# Altium footprint library PCB_control_unit.PcbLib: 48 footprints (part 1 of 3)
Each footprint in its own frame and in the unit in brackets; x right, y up, seen from the top. Pads: shape width x height; smd on the part's side, far side on the other; paste and mask are expansions set on the pad; w line width, h text height; cw(c..) or ccw(c..) is an arc to the next point about the centre after c.
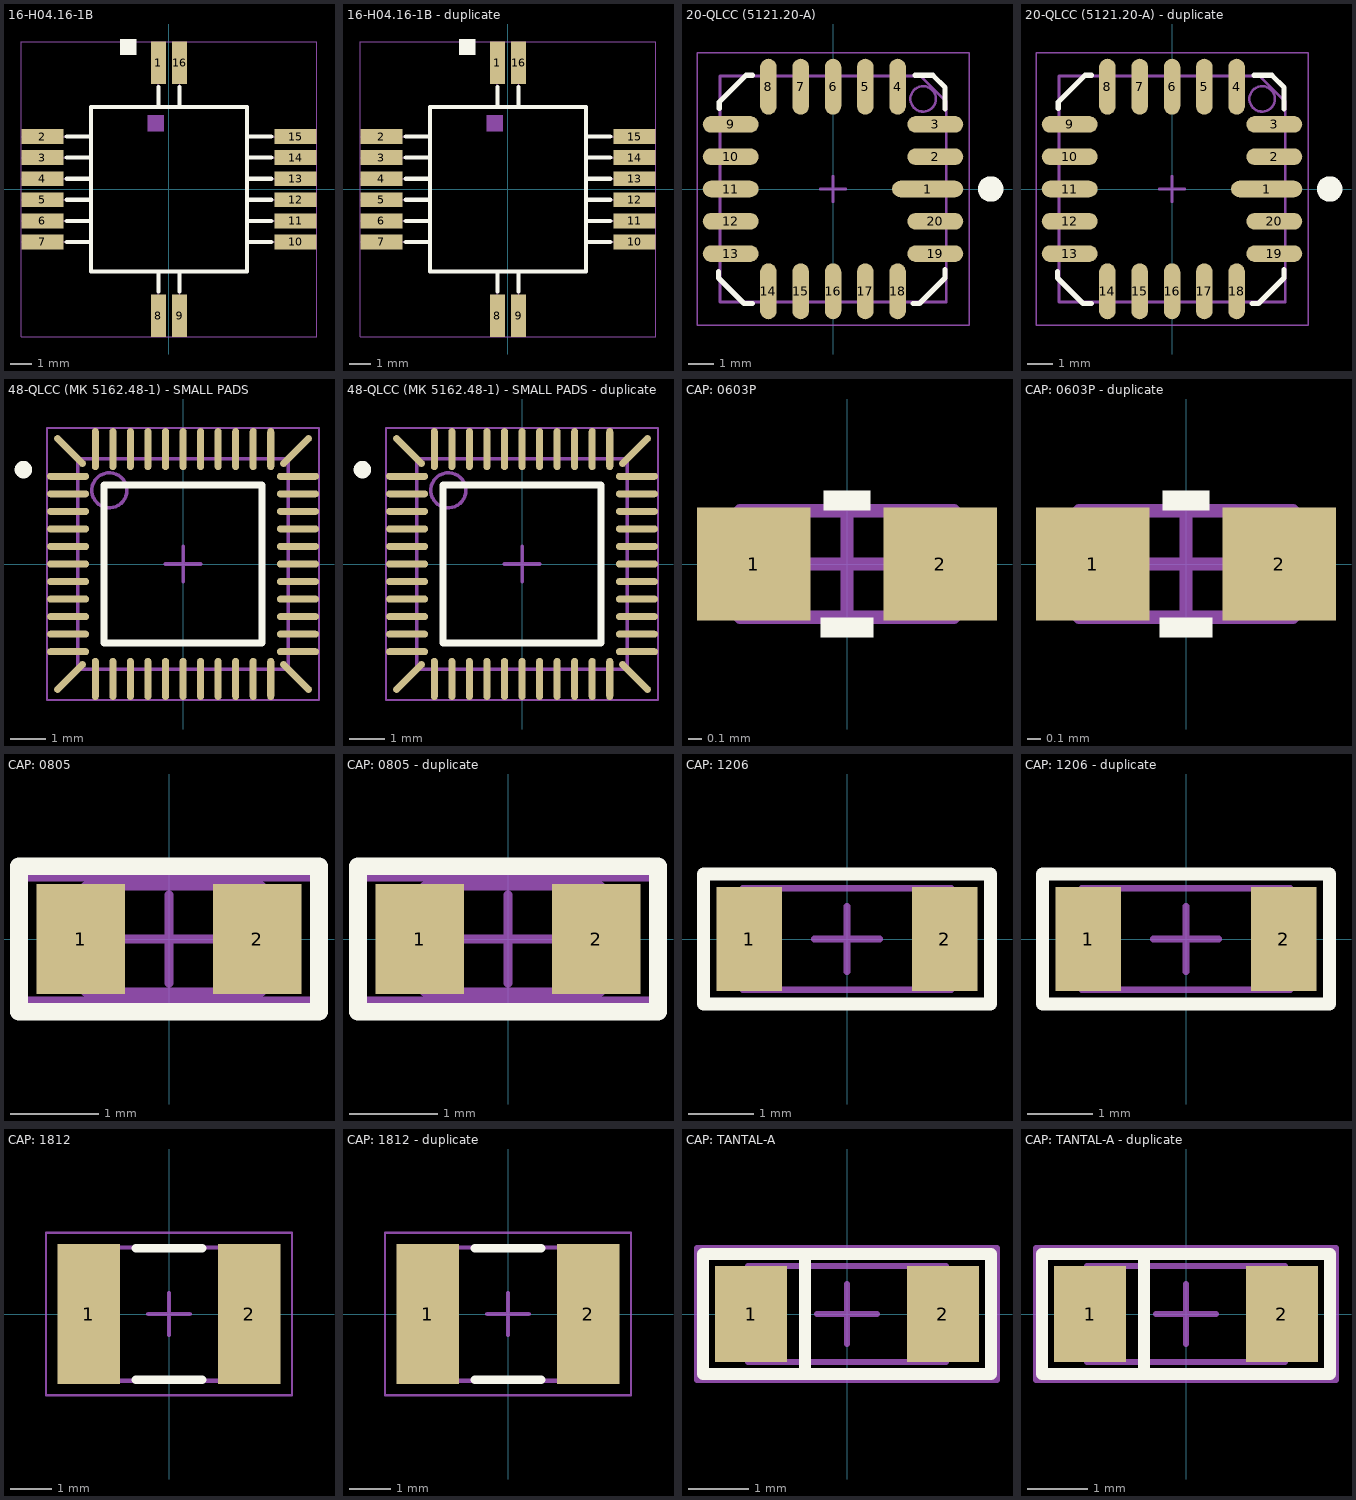
[diagram p0: the footprints below, top view; thin cyan lines are the x and y axes]

## 16-Н04.16-1B [mm] "USSR"
height 3
pads (16):
  rect 0.7x2 smd mask+0.075: 1(-0.5,6) 8(-0.5,-6) 9(0.5,-6) 16(0.5,6)
  rect 2x0.7 smd mask+0.075: 2(-6,2.5) 3(-6,1.5) 4(-6,0.5) 5(-6,-0.5) 6(-6,-1.5) 7(-6,-2.5) 10(6,-2.5) 11(6,-1.5) 12(6,-0.5) 13(6,0.5) 14(6,1.5)
  rect 2x0.7 smd: 15(6,2.5)
Top Overlay:
  region: -2.3,6.375 -1.55,6.375 -1.55,7.125 -2.3,7.125
  lines w0.2: -4.85,-2.5 -3.7,-2.5 ; -4.85,-1.5 -3.7,-1.5 ; -4.85,-0.5 -3.7,-0.5 ; -4.85,0.5 -3.7,0.5 ; -4.85,1.5 -3.7,1.5 ; -4.85,2.5 -3.7,2.5 ; -0.5,-4.85 -0.5,-3.9 ; -0.5,3.9 -0.5,4.85 ; 0.5,-4.85 0.5,-3.9 ; 0.5,3.9 0.5,4.85 ; 3.7,-2.5 4.85,-2.5 ; 3.7,-1.5 4.85,-1.5 ; 3.7,-0.5 4.85,-0.5 ; 3.7,0.5 4.85,0.5 ; 3.7,1.5 4.85,1.5 ; 3.7,2.5 4.85,2.5 ; -3.7,-3.9 3.7,-3.9 3.7,3.9 -3.7,3.9 -3.7,-3.9
Top Solder:
  region: -0.95,4.9 -0.05,4.9 -0.05,7.1 -0.95,7.1
  region: 4.9,-2.95 7.1,-2.95 7.1,-2.05 4.9,-2.05
  region: 4.9,-1.95 7.1,-1.95 7.1,-1.05 4.9,-1.05
  region: 4.9,-0.95 7.1,-0.95 7.1,-0.05 4.9,-0.05
  region: 4.9,0.05 7.1,0.05 7.1,0.95 4.9,0.95
  region: 4.9,1.05 7.1,1.05 7.1,1.95 4.9,1.95
  region: 4.9,2.05 7.1,2.05 7.1,2.95 4.9,2.95
  region: 0.05,4.9 0.95,4.9 0.95,7.1 0.05,7.1
  region: -7.1,2.05 -4.9,2.05 -4.9,2.95 -7.1,2.95
  region: -7.1,1.05 -4.9,1.05 -4.9,1.95 -7.1,1.95
  region: -7.1,0.05 -4.9,0.05 -4.9,0.95 -7.1,0.95
  region: -7.1,-0.95 -4.9,-0.95 -4.9,-0.05 -7.1,-0.05
  region: -7.1,-1.95 -4.9,-1.95 -4.9,-1.05 -7.1,-1.05
  region: -7.1,-2.95 -4.9,-2.95 -4.9,-2.05 -7.1,-2.05
  region: -0.95,-7.1 -0.05,-7.1 -0.05,-4.9 -0.95,-4.9
  region: 0.05,-7.1 0.95,-7.1 0.95,-4.9 0.05,-4.9
Mechanical 1:
  region: -1,2.75 -0.25,2.75 -0.25,3.5 -1,3.5
  lines w0.025: -7,-2.5 -3.7,-2.5 ; -7,-1.5 -3.7,-1.5 ; -7,-0.5 -3.7,-0.5 ; -7,0.5 -3.7,0.5 ; -7,1.5 -3.7,1.5 ; -7,2.5 -3.7,2.5 ; -0.5,-7 -0.5,-3.9 ; -0.5,3.9 -0.5,7 ; 0.5,-7 0.5,-3.9 ; 0.5,3.9 0.5,7 ; 3.7,-2.5 7,-2.5 ; 3.7,-1.5 7,-1.5 ; 3.7,-0.5 7,-0.5 ; 3.7,0.5 7,0.5 ; 3.7,1.5 7,1.5 ; 3.7,2.5 7,2.5 ; -3.7,-3.9 3.7,-3.9 3.7,3.9 -3.7,3.9 -3.7,-3.9
Mechanical 15:
  lines w0.01: -7,-7 7,-7 7,7 -7,7 -7,-7
3D body "Н04.16-1В.STEP": height 2.92, standoff 0, extent -7.84,-8 7.84,8

## 16-Н04.16-1B - duplicate [mm]
pads (16):
  rect 0.7x2 smd mask+0.075: 1(-0.5,6) 8(-0.5,-6) 9(0.5,-6) 16(0.5,6)
  rect 2x0.7 smd mask+0.075: 2(-6,2.5) 3(-6,1.5) 4(-6,0.5) 5(-6,-0.5) 6(-6,-1.5) 7(-6,-2.5) 10(6,-2.5) 11(6,-1.5) 12(6,-0.5) 13(6,0.5) 14(6,1.5)
  rect 2x0.7 smd: 15(6,2.5)
Top Overlay:
  region: -2.3,6.375 -1.55,6.375 -1.55,7.125 -2.3,7.125
  lines w0.2: -4.85,-2.5 -3.7,-2.5 ; -4.85,-1.5 -3.7,-1.5 ; -4.85,-0.5 -3.7,-0.5 ; -4.85,0.5 -3.7,0.5 ; -4.85,1.5 -3.7,1.5 ; -4.85,2.5 -3.7,2.5 ; -0.5,-4.85 -0.5,-3.9 ; -0.5,3.9 -0.5,4.85 ; 0.5,-4.85 0.5,-3.9 ; 0.5,3.9 0.5,4.85 ; 3.7,-2.5 4.85,-2.5 ; 3.7,-1.5 4.85,-1.5 ; 3.7,-0.5 4.85,-0.5 ; 3.7,0.5 4.85,0.5 ; 3.7,1.5 4.85,1.5 ; 3.7,2.5 4.85,2.5 ; -3.7,-3.9 -3.7,3.9 3.7,3.9 3.7,-3.9 -3.7,-3.9
Top Solder:
  region: 0.05,-7.1 0.95,-7.1 0.95,-4.9 0.05,-4.9
  region: -0.95,-7.1 -0.05,-7.1 -0.05,-4.9 -0.95,-4.9
  region: -7.1,-2.95 -4.9,-2.95 -4.9,-2.05 -7.1,-2.05
  region: -7.1,-1.95 -4.9,-1.95 -4.9,-1.05 -7.1,-1.05
  region: -7.1,-0.95 -4.9,-0.95 -4.9,-0.05 -7.1,-0.05
  region: -7.1,0.05 -4.9,0.05 -4.9,0.95 -7.1,0.95
  region: -7.1,1.05 -4.9,1.05 -4.9,1.95 -7.1,1.95
  region: -7.1,2.05 -4.9,2.05 -4.9,2.95 -7.1,2.95
  region: 0.05,4.9 0.95,4.9 0.95,7.1 0.05,7.1
  region: 4.9,2.05 7.1,2.05 7.1,2.95 4.9,2.95
  region: 4.9,1.05 7.1,1.05 7.1,1.95 4.9,1.95
  region: 4.9,0.05 7.1,0.05 7.1,0.95 4.9,0.95
  region: 4.9,-0.95 7.1,-0.95 7.1,-0.05 4.9,-0.05
  region: 4.9,-1.95 7.1,-1.95 7.1,-1.05 4.9,-1.05
  region: 4.9,-2.95 7.1,-2.95 7.1,-2.05 4.9,-2.05
  region: -0.95,4.9 -0.05,4.9 -0.05,7.1 -0.95,7.1
Mechanical 1:
  region: -1,2.75 -0.25,2.75 -0.25,3.5 -1,3.5
  lines w0.025: -7,-2.5 -3.7,-2.5 ; -7,-1.5 -3.7,-1.5 ; -7,-0.5 -3.7,-0.5 ; -7,0.5 -3.7,0.5 ; -7,1.5 -3.7,1.5 ; -7,2.5 -3.7,2.5 ; -0.5,-7 -0.5,-3.9 ; -0.5,3.9 -0.5,7 ; 0.5,-7 0.5,-3.9 ; 0.5,3.9 0.5,7 ; 3.7,-2.5 7,-2.5 ; 3.7,-1.5 7,-1.5 ; 3.7,-0.5 7,-0.5 ; 3.7,0.5 7,0.5 ; 3.7,1.5 7,1.5 ; 3.7,2.5 7,2.5 ; -3.7,-3.9 -3.7,3.9 3.7,3.9 3.7,-3.9 -3.7,-3.9
Mechanical 15:
  lines w0.01: -7,-7 -7,7 7,7 7,-7 -7,-7
3D body "Н04.16-1В.STEP": height 2.92, standoff 0, extent -7.84,-8 7.84,8

## 20-QLCC (5121.20-A) [mm] "LCC, 20-Pins, Body 8,89x8,89mmx2,55mm, Pitch 1,27mm, IPC Medium Density"
height 2.55
pads (20):
  oval 2.8x0.65 smd: 1(3.725,0)
  oval 2.2x0.65 smd: 2(4.025,1.27) 3(4.025,2.54) 9(-4.025,2.54) 10(-4.025,1.27) 11(-4.025,0) 12(-4.025,-1.27) 13(-4.025,-2.54) 19(4.025,-2.54) 20(4.025,-1.27)
  oval 0.65x2.2 smd: 4(2.54,4.025) 5(1.27,4.025) 6(0,4.025) 7(-1.27,4.025) 8(-2.54,4.025) 14(-2.54,-4.025) 15(-1.27,-4.025) 16(0,-4.025) 17(1.27,-4.025) 18(2.54,-4.025)
Top Overlay:
  circle w0.5: c6.2,0 r0.25
  lines w0.2: -4.5,-3.25 -4.5,-3.5 -3.5,-4.5 -3.175,-4.5 ; -4.475,3.175 -4.475,3.425 -3.425,4.475 -3.175,4.475 ; 3.15,-4.5 3.4,-4.5 4.4,-3.5 4.4,-3.175 ; 3.225,4.475 3.925,4.475 4.4,4 4.4,3.15
Mechanical 13:
  circle w0.1: c3.545,3.545 r0.5
  lines w0.1: -4.445,-4.445 -4.445,4.445 3.445,4.445 4.445,3.445 4.445,-4.445 -4.445,-4.445
Mechanical 15:
  lines w0.05: -5.35,-5.35 5.35,-5.35 5.35,5.35 -5.35,5.35 -5.35,-5.35
  lines w0.1: -0.5,0 0.5,0 ; 0,-0.5 0,0.5
3D body "3_korpus_5121_20-a.stp": height 2.12, standoff 0, extent -4.445,-4.445 4.445,4.445

## 20-QLCC (5121.20-A) - duplicate [mm]
pads (20):
  oval 2.8x0.65 smd: 1(3.725,0)
  oval 2.2x0.65 smd: 2(4.025,1.27) 3(4.025,2.54) 9(-4.025,2.54) 10(-4.025,1.27) 11(-4.025,0) 12(-4.025,-1.27) 13(-4.025,-2.54) 19(4.025,-2.54) 20(4.025,-1.27)
  oval 0.65x2.2 smd: 4(2.54,4.025) 5(1.27,4.025) 6(0,4.025) 7(-1.27,4.025) 8(-2.54,4.025) 14(-2.54,-4.025) 15(-1.27,-4.025) 16(0,-4.025) 17(1.27,-4.025) 18(2.54,-4.025)
Top Overlay:
  circle w0.5: c6.2,0 r0.25
  lines w0.2: -4.5,-3.25 -4.5,-3.5 -3.5,-4.5 -3.175,-4.5 ; -4.475,3.175 -4.475,3.425 -3.425,4.475 -3.175,4.475 ; 3.15,-4.5 3.4,-4.5 4.4,-3.5 4.4,-3.175 ; 3.225,4.475 3.925,4.475 4.4,4 4.4,3.15
Mechanical 13:
  circle w0.1: c3.545,3.545 r0.5
  lines w0.1: -4.445,-4.445 -4.445,4.445 3.445,4.445 4.445,3.445 4.445,-4.445 -4.445,-4.445
Mechanical 15:
  lines w0.05: -5.35,-5.35 5.35,-5.35 5.35,5.35 -5.35,5.35 -5.35,-5.35
  lines w0.1: -0.5,0 0.5,0 ; 0,-0.5 0,0.5
3D body "3_korpus_5121_20-a.stp": height 2.12, standoff 0, extent -4.445,-4.445 4.445,4.445

## 48-QLCC (МК 5162.48-1) - SMALL PADS [mm] "QFN-cl-h-48-0.5-002 Тихонов Е.Н."
pads (48):
  oval 1.2x0.2 smd mask+0.1: 1(-3.275,2.5) 2(-3.275,2) 3(-3.275,1.5) 4(-3.275,1) 5(-3.275,0.5) 6(-3.275,0) 7(-3.275,-0.5) 8(-3.275,-1) 9(-3.275,-1.5) 10(-3.275,-2) 11(-3.275,-2.5) 25(3.275,-2.5) 26(3.275,-2) 27(3.275,-1.5) 28(3.275,-1) 29(3.275,-0.5) 30(3.275,0) 31(3.275,0.5) 32(3.275,1) 33(3.275,1.5) 34(3.275,2) 35(3.275,2.5)
  oval 0.2x1.2 smd rot 135 mask+0.1: 12(-3.22,-3.22) 36(3.22,3.22)
  oval 0.2x1.2 smd mask+0.1: 13(-2.5,-3.275) 14(-2,-3.275) 15(-1.5,-3.275) 16(-1,-3.275) 17(-0.5,-3.275) 18(0,-3.275) 19(0.5,-3.275) 20(1,-3.275) 21(1.5,-3.275) 22(2,-3.275) 23(2.5,-3.275) 37(2.5,3.275) 38(2,3.275) 39(1.5,3.275) 40(1,3.275) 41(0.5,3.275) 42(0,3.275) 43(-0.5,3.275) 44(-1,3.275) 45(-1.5,3.275) 46(-2,3.275) 47(-2.5,3.275)
  oval 0.2x1.2 smd rot 45 mask+0.1: 24(3.22,-3.22) 48(-3.22,3.22)
Top Overlay:
  circle w0.25: c-4.55,2.689 r0.125
  lines w0.2: -2.25,-2.25 2.25,-2.25 2.25,2.25 -2.25,2.25 -2.25,-2.25
Mechanical 13:
  circle w0.1: c-2.1,2.1 r0.5
  lines w0.1: -3,-3 -3,2.95 -2.95,3 3,3 3,-3 -3,-3
Mechanical 15:
  lines w0.05: -3.875,-3.875 -3.875,3.875 3.875,3.875 3.875,-3.875 -3.875,-3.875
  lines w0.1: -0.5,0 0.5,0 ; 0,-0.5 0,0.5
3D body "5162.48-1 Корпус.stp": height 1.61, standoff -0.01, extent -3,-3 3,3

## 48-QLCC (МК 5162.48-1) - SMALL PADS - duplicate [mm]
pads (48):
  oval 1.2x0.2 smd mask+0.1: 1(-3.275,2.5) 2(-3.275,2) 3(-3.275,1.5) 4(-3.275,1) 5(-3.275,0.5) 6(-3.275,0) 7(-3.275,-0.5) 8(-3.275,-1) 9(-3.275,-1.5) 10(-3.275,-2) 11(-3.275,-2.5) 25(3.275,-2.5) 26(3.275,-2) 27(3.275,-1.5) 28(3.275,-1) 29(3.275,-0.5) 30(3.275,0) 31(3.275,0.5) 32(3.275,1) 33(3.275,1.5) 34(3.275,2) 35(3.275,2.5)
  oval 0.2x1.2 smd rot 135 mask+0.1: 12(-3.22,-3.22) 36(3.22,3.22)
  oval 0.2x1.2 smd mask+0.1: 13(-2.5,-3.275) 14(-2,-3.275) 15(-1.5,-3.275) 16(-1,-3.275) 17(-0.5,-3.275) 18(0,-3.275) 19(0.5,-3.275) 20(1,-3.275) 21(1.5,-3.275) 22(2,-3.275) 23(2.5,-3.275) 37(2.5,3.275) 38(2,3.275) 39(1.5,3.275) 40(1,3.275) 41(0.5,3.275) 42(0,3.275) 43(-0.5,3.275) 44(-1,3.275) 45(-1.5,3.275) 46(-2,3.275) 47(-2.5,3.275)
  oval 0.2x1.2 smd rot 45 mask+0.1: 24(3.22,-3.22) 48(-3.22,3.22)
Top Overlay:
  circle w0.25: c-4.55,2.689 r0.125
  lines w0.2: -2.25,-2.25 2.25,-2.25 2.25,2.25 -2.25,2.25 -2.25,-2.25
Mechanical 13:
  circle w0.1: c-2.1,2.1 r0.5
  lines w0.1: -3,-3 -3,2.95 -2.95,3 3,3 3,-3 -3,-3
Mechanical 15:
  lines w0.05: -3.875,-3.875 -3.875,3.875 3.875,3.875 3.875,-3.875 -3.875,-3.875
  lines w0.1: -0.5,0 0.5,0 ; 0,-0.5 0,0.5
3D body "5162.48-1 Корпус.stp": height 1.61, standoff -0.01, extent -3,-3 3,3

## CAP: 0603P [mm] "small var"
height 0.45
pads (2):
  rect 0.85x0.85 smd: 1(-0.7,0) 2(0.7,0)
Top Overlay:
  rectangle: -0.178,0.4 0.178,0.55
  rectangle: -0.198,-0.55 0.198,-0.4
Mechanical 1:
  lines w0.1: -0.8,-0.4 0.8,-0.4 0.8,0.4 -0.8,0.4 -0.8,-0.4
Mechanical 15:
  lines w0.1: -0.475,0 0.475,0 ; 0,-0.475 0,0.475
3D body "SW3dPS-0603 SMD Capacitor.STEP": height 0.3, standoff 0, extent -0.8,-0.4 0.8,0.4

## CAP: 0603P - duplicate [mm]
pads (2):
  rect 0.85x0.85 smd: 1(-0.7,0) 2(0.7,0)
Top Overlay:
  rectangle: -0.178,0.4 0.178,0.55
  rectangle: -0.198,-0.55 0.198,-0.4
Mechanical 1:
  lines w0.1: -0.8,-0.4 0.8,-0.4 0.8,0.4 -0.8,0.4 -0.8,-0.4
Mechanical 15:
  lines w0.1: -0.475,0 0.475,0 ; 0,-0.475 0,0.475
3D body "SW3dPS-0603 SMD Capacitor.STEP": height 0.3, standoff 0, extent -0.8,-0.4 0.8,0.4

## CAP: 0805 [mm]
height 0.45
pads (2):
  rect 1x1.25 smd: 1(-1,0) 2(1,0)
Top Overlay:
  lines w0.2: -1.7,-0.825 1.7,-0.825 1.7,0.825 -1.7,0.825 -1.7,-0.825
Mechanical 1:
  lines w0.1: -0.949,-0.6 1.05,-0.6 1.05,0.6 -0.949,0.6 -0.949,-0.6
Mechanical 15:
  lines w0.1: -0.5,0 0.5,0 ; 0,-0.5 0,0.5 ; -1.7,-0.7 -1.7,0.7 1.7,0.7 1.7,-0.7 -1.7,-0.7
3D body "SW3dPS-0805 SMD Capacitor.STEP": height 0.78, standoff 0, extent -1,-0.625 1,0.625

## CAP: 0805 - duplicate [mm]
pads (2):
  rect 1x1.25 smd: 1(-1,0) 2(1,0)
Top Overlay:
  lines w0.2: -1.7,-0.825 1.7,-0.825 1.7,0.825 -1.7,0.825 -1.7,-0.825
Mechanical 1:
  lines w0.1: -0.949,-0.6 1.05,-0.6 1.05,0.6 -0.949,0.6 -0.949,-0.6
Mechanical 15:
  lines w0.1: -0.5,0 0.5,0 ; 0,-0.5 0,0.5 ; -1.7,-0.7 -1.7,0.7 1.7,0.7 1.7,-0.7 -1.7,-0.7
3D body "SW3dPS-0805 SMD Capacitor.STEP": height 0.78, standoff 0, extent -1,-0.625 1,0.625

## CAP: 1206 [mm]
height 0.6
pads (2):
  rect 1x1.6 smd: 1(-1.5,0) 2(1.5,0)
Top Overlay:
  lines w0.2: -2.2,-1 -2.2,1 2.2,1 2.2,-1 -2.2,-1
Mechanical 1:
  lines w0.1: -1.6,-0.775 -1.6,0.775 1.6,0.775 1.6,-0.775 -1.6,-0.775
Mechanical 15:
  lines w0.1: -0.5,0 0.5,0 ; 0,-0.5 0,0.5 ; -2.2,-1 2.2,-1 2.2,1 -2.2,1 -2.2,-1
3D body "SW3dPS-1206 SMD Capacitor.STEP": height 1, standoff 0, extent -1.6,-0.8 1.6,0.8

## CAP: 1206 - duplicate [mm]
pads (2):
  rect 1x1.6 smd: 1(-1.5,0) 2(1.5,0)
Top Overlay:
  lines w0.2: -2.2,-1 -2.2,1 2.2,1 2.2,-1 -2.2,-1
Mechanical 1:
  lines w0.1: -1.6,-0.775 -1.6,0.775 1.6,0.775 1.6,-0.775 -1.6,-0.775
Mechanical 15:
  lines w0.1: -0.5,0 0.5,0 ; 0,-0.5 0,0.5 ; -2.2,-1 2.2,-1 2.2,1 -2.2,1 -2.2,-1
3D body "SW3dPS-1206 SMD Capacitor.STEP": height 1, standoff 0, extent -1.6,-0.8 1.6,0.8

## CAP: 1812 [mm]
height 1.4
pads (2):
  rect 1.5x3.35 smd: 1(-1.925,0) 2(1.925,0)
Top Overlay:
  lines w0.2: -0.8,-1.575 0.8,-1.575 ; -0.8,1.575 0.8,1.575
Mechanical 1:
  lines w0.1: -2.25,-1.6 -2.25,1.6 2.25,1.6 2.25,-1.6 -2.25,-1.6
Mechanical 15:
  lines w0.05: -2.95,-1.95 -2.95,1.95 2.95,1.95 2.95,-1.95 -2.95,-1.95
  lines w0.1: -0.5,0 0.5,0 ; 0,-0.5 0,0.5
3D body "SW3dPS-1812 SMD Capacitor.STEP": height 1.6, standoff 0, extent -2.25,-1.6 2.25,1.6

## CAP: 1812 - duplicate [mm]
pads (2):
  rect 1.5x3.35 smd: 1(-1.925,0) 2(1.925,0)
Top Overlay:
  lines w0.2: -0.8,-1.575 0.8,-1.575 ; -0.8,1.575 0.8,1.575
Mechanical 1:
  lines w0.1: -2.25,-1.6 -2.25,1.6 2.25,1.6 2.25,-1.6 -2.25,-1.6
Mechanical 15:
  lines w0.05: -2.95,-1.95 -2.95,1.95 2.95,1.95 2.95,-1.95 -2.95,-1.95
  lines w0.1: -0.5,0 0.5,0 ; 0,-0.5 0,0.5
3D body "SW3dPS-1812 SMD Capacitor.STEP": height 1.6, standoff 0, extent -2.25,-1.6 2.25,1.6

## CAP: TANTAL-A [mm]
height 1.6
pads (2):
  rect 1.2x1.6 smd: 1(-1.6,0) 2(1.6,0)
Top Overlay:
  lines w0.2: -0.7,-1 -0.7,1 ; -2.4,-1 2.4,-1 2.4,1 -2.4,1 -2.4,-1
Mechanical 1:
  lines w0.1: -0.7,-0.8 -0.7,0.8 ; -1.651,-0.8 1.651,-0.8 1.651,0.8 -1.651,0.8 -1.651,-0.8
Mechanical 15:
  lines w0.1: -0.5,0 0.5,0 ; 0,-0.5 0,0.5 ; -2.5,-1.1 -2.5,1.1 2.5,1.1 2.5,-1.1 -2.5,-1.1
3D body "User Library-AVX_ACASE.STEP": height 1.71, standoff 0, extent -1.7,-0.84 1.7,0.84

## CAP: TANTAL-A - duplicate [mm]
pads (2):
  rect 1.2x1.6 smd: 1(-1.6,0) 2(1.6,0)
Top Overlay:
  lines w0.2: -0.7,-1 -0.7,1 ; -2.4,-1 2.4,-1 2.4,1 -2.4,1 -2.4,-1
Mechanical 1:
  lines w0.1: -0.7,-0.8 -0.7,0.8 ; -1.651,-0.8 1.651,-0.8 1.651,0.8 -1.651,0.8 -1.651,-0.8
Mechanical 15:
  lines w0.1: -0.5,0 0.5,0 ; 0,-0.5 0,0.5 ; -2.5,-1.1 -2.5,1.1 2.5,1.1 2.5,-1.1 -2.5,-1.1
3D body "User Library-AVX_ACASE.STEP": height 1.71, standoff 0, extent -1.7,-0.84 1.7,0.84